# Altium schematic symbol library CONSMA001-SMD-G.SchLib: 1 symbol
Pins are listed as number, name and electrical type; pins without a type are passive.

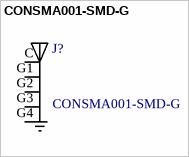
[diagram p0: symbol CONSMA001-SMD-G]

## CONSMA001-SMD-G
designator J?
/ 50 Ohm Gold Plated Female PCB Mount SMA Connector /; MF: Linx Technologies; Package: None; Digi-Key_Part_Number: CONSMA001-SMD-G-ND; SnapEDA_Link: https://www.snapeda.com/parts/CONSMA001-SMD-G/Linx%20Technologies%20Inc./view-part/?ref=snap; Digi-Key_Purchase_URL: https://www.digikey.com/product-detail/en/linx-technologies-inc/CONSMA001-SMD-G/CONSMA001-SMD-G-ND/4496569?utm_source=snapeda&utm_medium=aggregator&utm_campaign=symbol; MP: CONSMA001-SMD-G; Value: *
footprint *LINX_CONSMA001-SMD-G_CONSMA001-SMD-G(Primary)
pins: C FEEDING, G1 GND (power), G2 GND (power), G3 GND (power), G4 GND (power)